# EAGLE library part HT12F (library holtek)
decoder = receiver IC
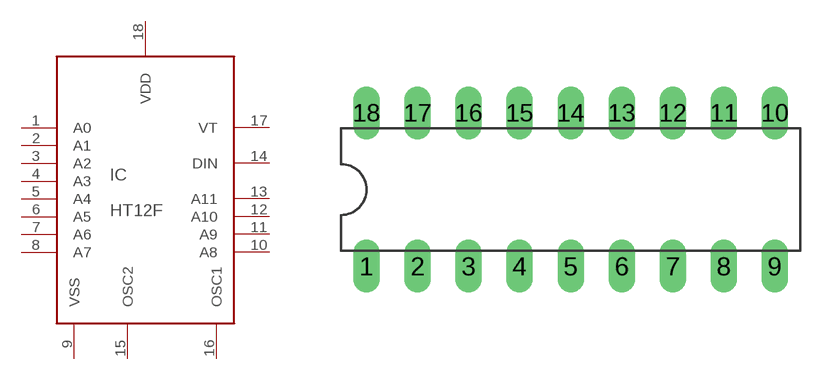
[diagram p4: symbol with the pads of 18-DIP-A; footprint 18-DIP-A]

Designator prefix IC

## HT12F"  [18-DIP-A]
1  A0  in
2  A1  in
3  A2  in
4  A3  in
5  A4  in
6  A5  in
7  A6  in
8  A7  in
9  VSS  sup
10  A8  in
11  A9  in
12  A10  in
13  A11  in
14  DIN  in
15  OSC2  out
16  OSC1  in
17  VT  out
18  VDD  pwr

## Footprint 18-DIP-A (pad centres in mm)
18 pin DIP package, standard width 300 mil
drill 0.813 long: 1 -10.16,-3.81; 2 -7.62,-3.81; 3 -5.08,-3.81; 4 -2.54,-3.81; 5 0,-3.81; 6 2.54,-3.81; 7 5.08,-3.81; 8 7.62,-3.81; 9 10.16,-3.81; 10 10.16,3.81; 11 7.62,3.81; 12 5.08,3.81; 13 2.54,3.81; 14 0,3.81; 15 -2.54,3.81; 16 -5.08,3.81; 17 -7.62,3.81; 18 -10.16,3.81